# EAGLE library part 74LVC(H)16245A (library Gekkio-nxp)
16-bit bus transceiver with direction pin; 5 V tolerant; 3-state
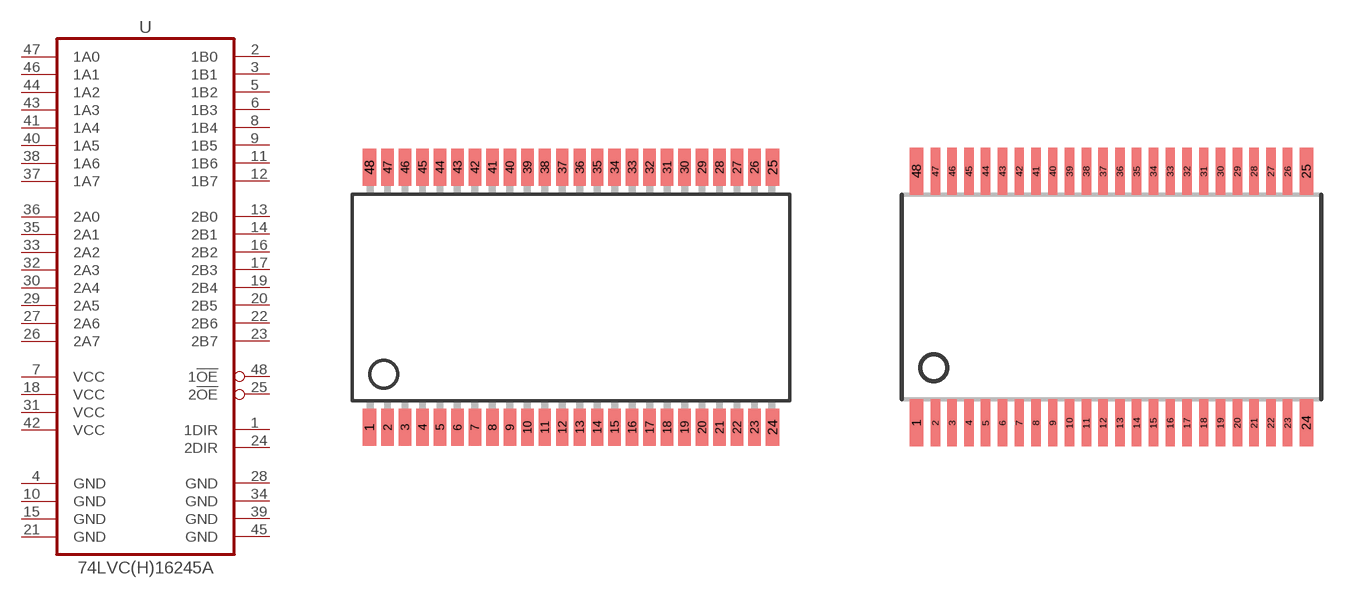
[diagram p8: symbol with the pads of SOT370-1; footprints SOT370-1, SOT362-1]

Designator prefix U

## 74LVC(H)16245ADL  [SOT370-1]
1  1DIR  in
2  1B0  hiz
3  1B1  hiz
4  GND  pwr
5  1B2  hiz
6  1B3  hiz
7  VCC  pwr
8  1B4  hiz
9  1B5  hiz
10  GND  pwr
11  1B6  hiz
12  1B7  hiz
13  2B0  hiz
14  2B1  hiz
15  GND  pwr
16  2B2  hiz
17  2B3  hiz
18  VCC  pwr
19  2B4  hiz
20  2B5  hiz
21  GND  pwr
22  2B6  hiz
23  2B7  hiz
24  2DIR  in
25  2!OE  in
26  2A7  hiz
27  2A6  hiz
28  GND  pwr
29  2A5  hiz
30  2A4  hiz
31  VCC  pwr
32  2A3  hiz
33  2A2  hiz
34  GND  pwr
35  2A1  hiz
36  2A0  hiz
37  1A7  hiz
38  1A6  hiz
39  GND  pwr
40  1A5  hiz
41  1A4  hiz
42  VCC  pwr
43  1A3  hiz
44  1A2  hiz
45  GND  pwr
46  1A1  hiz
47  1A0  hiz
48  1!OE  in

## 74LVC(H)16245ADGG  [SOT362-1]
Pads as for SOT370-1

## 74LVC(H)16245ABX  [SOT1134-2]
A1  VCC  pwr
A2  1B4  hiz
A3  GND  pwr
A5  1B7  hiz
A6  2B0  hiz
A8  GND  pwr
A9  2B3  hiz
A10  VCC  pwr
A11  GND  pwr
A12  2B6  hiz
A13  2DIR  in
A14  2!OE  in
A15  2A6  hiz
A16  GND  pwr
A17  VCC  pwr
A18  2A3  hiz
A19  GND  pwr
A21  2A0  hiz
A22  1A7  hiz
A24  GND  pwr
A25  1A4  hiz
A26  VCC  pwr
A27  GND  pwr
A28  1A1  hiz
A29  1!OE  in
A30  1DIR  in
A31  1B1  hiz
A32  GND  pwr
B2  1B5  hiz
B3  1B6  hiz
B5  2B1  hiz
B6  2B2  hiz
B8  2B7  hiz
B10  2A7  hiz
B12  2A2  hiz
B13  2A1  hiz
B15  1A6  hiz
B16  1A5  hiz
B18  1A0  hiz
B20  1B0  hiz
D1  1B3  hiz
D2  2B4  hiz
D3  2A4  hiz
D4  1A3  hiz
D5  1B2  hiz
D6  2B5  hiz
D7  2A5  hiz
D8  1A2  hiz
M  GND  pwr

## 74LVC(H)16245AEV  [SOT702-1]
A1  1DIR  in
A6  1!OE  in
B1  1B1  hiz
B2  1B0  hiz
B3  GND  pwr
B4  GND  pwr
B5  1A0  hiz
B6  1A1  hiz
C1  1B3  hiz
C2  1B2  hiz
C3  VCC  pwr
C4  VCC  pwr
C5  1A2  hiz
C6  1A3  hiz
D1  1B5  hiz
D2  1B4  hiz
D3  GND  pwr
D4  GND  pwr
D5  1A4  hiz
D6  1A5  hiz
E1  1B7  hiz
E2  1B6  hiz
E5  1A6  hiz
E6  1A7  hiz
F1  2B0  hiz
F2  2B1  hiz
F5  2A1  hiz
F6  2A0  hiz
G1  2B2  hiz
G2  2B3  hiz
G3  GND  pwr
G4  GND  pwr
G5  2A3  hiz
G6  2A2  hiz
H1  2B4  hiz
H2  2B5  hiz
H3  VCC  pwr
H4  VCC  pwr
H5  2A5  hiz
H6  2A4  hiz
J1  2B6  hiz
J2  2B7  hiz
J3  GND  pwr
J4  GND  pwr
J5  2A7  hiz
J6  2A6  hiz
K1  2DIR  in
K6  2!OE  in

## Footprint SOT370-1 (pad centres in mm)
SOT370-1 (SSOP48) plastic shrink small outline package 48 leads body width 7.5 mm Not tested! Source: NXP SOT370-1 Package Information, 8 February 2016
smd 0.5 x 1.35: 1 -7.327,-4.725; 24 7.327,-4.725; 25 7.327,4.725; 48 -7.327,4.725
smd 0.45 x 1.35: 2 -6.668,-4.725; 3 -6.032,-4.725; 4 -5.397,-4.725; 5 -4.763,-4.725; 6 -4.128,-4.725; 7 -3.493,-4.725; 8 -2.857,-4.725; 9 -2.223,-4.725; 10 -1.587,-4.725; 11 -0.953,-4.725; 12 -0.318,-4.725; 13 0.318,-4.725; 14 0.953,-4.725; 15 1.587,-4.725; 16 2.223,-4.725; 17 2.857,-4.725; 18 3.493,-4.725; 19 4.128,-4.725; 20 4.763,-4.725; 21 5.397,-4.725; 22 6.032,-4.725; 23 6.668,-4.725; 26 6.668,4.725; 27 6.032,4.725; 28 5.397,4.725; 29 4.763,4.725; 30 4.128,4.725; 31 3.493,4.725; 32 2.857,4.725; 33 2.223,4.725; 34 1.587,4.725; 35 0.953,4.725; 36 0.318,4.725; 37 -0.318,4.725; 38 -0.953,4.725; 39 -1.587,4.725; 40 -2.223,4.725; 41 -2.857,4.725; 42 -3.493,4.725; 43 -4.128,4.725; 44 -4.763,4.725; 45 -5.397,4.725; 46 -6.032,4.725; 47 -6.668,4.725

## Footprint SOT362-1 (pad centres in mm)
SOT362-1 (TSSOP48) plastic thin shrink small outline package 48 leads body width 6.1 mm Tested Source: NXP SOT362-1 Package Information, 8 February 2016
smd 0.4 x 1.4: 1 -5.81,-3.75; 24 5.81,-3.75; 25 5.81,3.75; 48 -5.81,3.75
smd 0.28 x 1.4: 2 -5.25,-3.75; 3 -4.75,-3.75; 4 -4.25,-3.75; 5 -3.75,-3.75; 6 -3.25,-3.75; 7 -2.75,-3.75; 8 -2.25,-3.75; 9 -1.75,-3.75; 10 -1.25,-3.75; 11 -0.75,-3.75; 12 -0.25,-3.75; 13 0.25,-3.75; 14 0.75,-3.75; 15 1.25,-3.75; 16 1.75,-3.75; 17 2.25,-3.75; 18 2.75,-3.75; 19 3.25,-3.75; 20 3.75,-3.75; 21 4.25,-3.75; 22 4.75,-3.75; 23 5.25,-3.75; 26 5.25,3.75; 27 4.75,3.75; 28 4.25,3.75; 29 3.75,3.75; 30 3.25,3.75; 31 2.75,3.75; 32 2.25,3.75; 33 1.75,3.75; 34 1.25,3.75; 35 0.75,3.75; 36 0.25,3.75; 37 -0.25,3.75; 38 -0.75,3.75; 39 -1.25,3.75; 40 -1.75,3.75; 41 -2.25,3.75; 42 -2.75,3.75; 43 -3.25,3.75; 44 -3.75,3.75; 45 -4.25,3.75; 46 -4.75,3.75; 47 -5.25,3.75

## Footprint SOT1134-2 (pad centres in mm)
SOT1134-2 (HXQFN60U) plastic compatible thermal enhanced extremely thin quad flat package no leads 60 terminals body 4 x 6 x 0.5 mm Not tested! Source: NXP SOT1134-2 Package Information, 10 June 2016
smd 0.3 x 0.3: A1 -1.75,2.25; A2 -1.75,1.75; A3 -1.75,1.25; A4 -1.75,0.75; A5 -1.75,0.25; A6 -1.75,-0.25; A7 -1.75,-0.75; A8 -1.75,-1.25; A9 -1.75,-1.75; A10 -1.75,-2.25; A11 -1.25,-2.75; A12 -0.75,-2.75; A13 -0.25,-2.75; A14 0.25,-2.75; A15 0.75,-2.75; A16 1.25,-2.75; A17 1.75,-2.25; A18 1.75,-1.75; A19 1.75,-1.25; A20 1.75,-0.75; A21 1.75,-0.25; A22 1.75,0.25; A23 1.75,0.75; A24 1.75,1.25; A25 1.75,1.75; A26 1.75,2.25; A27 1.25,2.75; A28 0.75,2.75; A29 0.25,2.75; A30 -0.25,2.75; A31 -0.75,2.75; A32 -1.25,2.75; B1 -1.25,1.5; B2 -1.25,1; B3 -1.25,0.5; B4 -1.25,0; B5 -1.25,-0.5; B6 -1.25,-1; B7 -1.25,-1.5; B8 -0.5,-2.25; B9 0,-2.25; B10 0.5,-2.25; B11 1.25,-1.5; B12 1.25,-1; B13 1.25,-0.5; B14 1.25,0; B15 1.25,0.5; B16 1.25,1; B17 1.25,1.5; B18 0.5,2.25; B19 0,2.25; B20 -0.5,2.25; D1 -1.75,2.75; D2 -1.75,-2.75; D3 1.75,-2.75; D4 1.75,2.75; D5 -1.25,2.25; D6 -1.25,-2.25; D7 1.25,-2.25; D8 1.25,2.25
smd 1.9 x 3.9: M 0,0

## Footprint SOT702-1 (pad centres in mm)
SOT702-1 (VFBGA56) plastic very thin fine-pitch ball grid array package 56 balls body 4.5 x 7 x 0.65 mm Not tested! Source: NXP SOT702-1 Package Information, 8 February 2016
smd 0.4 x 0.4: A1 -1.625,2.925; A2 -0.975,2.925; A3 -0.325,2.925; A4 0.325,2.925; A5 0.975,2.925; A6 1.625,2.925; B1 -1.625,2.275; B2 -0.975,2.275; B3 -0.325,2.275; B4 0.325,2.275; B5 0.975,2.275; B6 1.625,2.275; C1 -1.625,1.625; C2 -0.975,1.625; C3 -0.325,1.625; C4 0.325,1.625; C5 0.975,1.625; C6 1.625,1.625; D1 -1.625,0.975; D2 -0.975,0.975; D3 -0.325,0.975; D4 0.325,0.975; D5 0.975,0.975; D6 1.625,0.975; E1 -1.625,0.325; E2 -0.975,0.325; E5 0.975,0.325; E6 1.625,0.325; F1 -1.625,-0.325; F2 -0.975,-0.325; F5 0.975,-0.325; F6 1.625,-0.325; G1 -1.625,-0.975; G2 -0.975,-0.975; G3 -0.325,-0.975; G4 0.325,-0.975; G5 0.975,-0.975; G6 1.625,-0.975; H1 -1.625,-1.625; H2 -0.975,-1.625; H3 -0.325,-1.625; H4 0.325,-1.625; H5 0.975,-1.625; H6 1.625,-1.625; J1 -1.625,-2.275; J2 -0.975,-2.275; J3 -0.325,-2.275; J4 0.325,-2.275; J5 0.975,-2.275; J6 1.625,-2.275; K1 -1.625,-2.925; K2 -0.975,-2.925; K3 -0.325,-2.925; K4 0.325,-2.925; K5 0.975,-2.925; K6 1.625,-2.925